# Altium footprint library DCJ200-10-A-XX-X.PcbLib: 1 footprints
Each footprint in its own frame and in the unit in brackets; x right, y up, seen from the top. Pads: shape width x height; smd on the part's side, far side on the other; paste and mask are expansions set on the pad; w line width, h text height; cw(c..) or ccw(c..) is an arc to the next point about the centre after c.
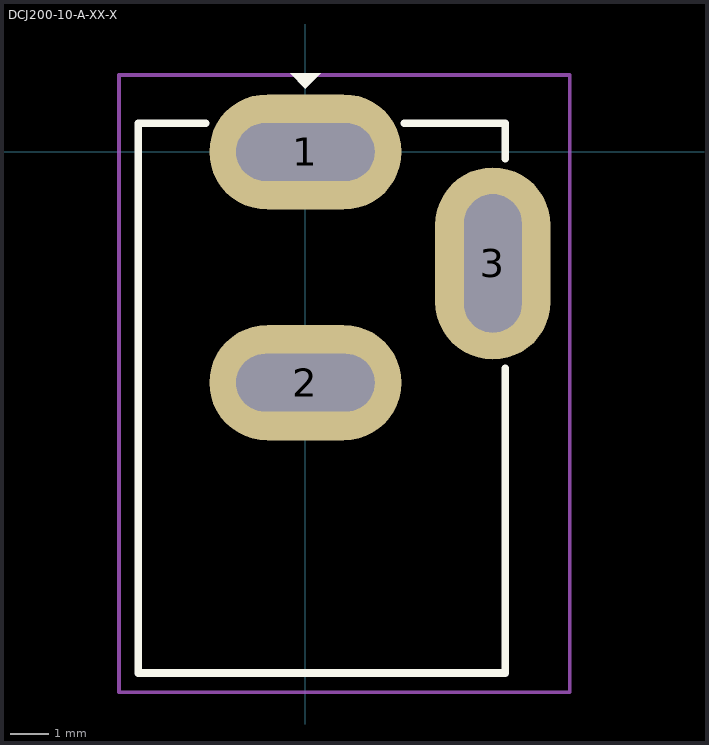
[diagram p0: the footprint, top view; thin cyan lines are the x and y axes]

## DCJ200-10-A-XX-X [mm]
pads (3):
  oval 5x3 hole 1.5 slot 3.6 at 0 deg: 1(0,0) 2(0,-6)
  oval 3x5 hole 1.5 slot 3.6 at 90 deg: 3(4.875,-2.9)
Top Overlay:
  region: -0.4,2.05 0.4,2.05 0,1.65
  lines w0.2: -2.6,0.75 -4.35,0.75 -4.35,-13.55 5.2,-13.55 5.2,-5.625 ; 2.575,0.75 5.2,0.75 5.2,-0.175
Top Courtyard:
  lines w0.1: -4.85,-14.05 6.875,-14.05 6.875,2 -4.85,2 -4.85,-13.55 -4.85,-14.05
3D body "DCJ200-10-A-K1-K--3DModel-STEP-56544.STEP": height 11, standoff -3.5, extent -4.35,-13.55 5.2,0.75